# EAGLE library part STM32F4-144_PIN (library p.peter-ics)
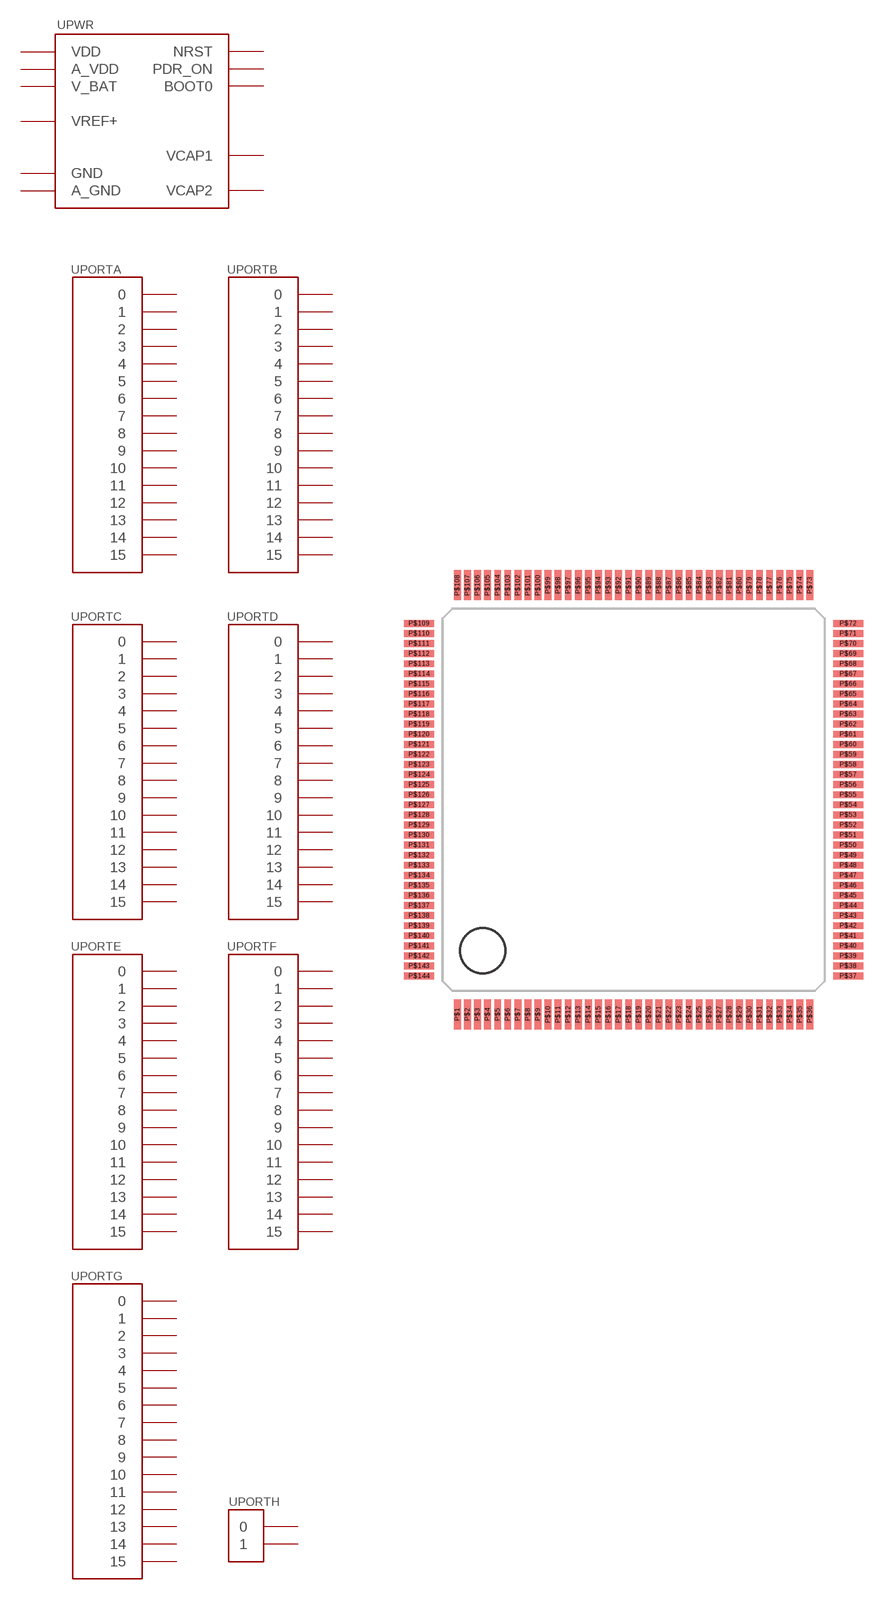
[diagram p5: symbol with the pads of LQFP144; footprint LQFP144]

Designator prefix -; gates PWR=STM32F4-PWR PORTA=STM32-PORT PORTB=STM32-PORT PORTC=STM32-PORT PORTD=STM32-PORT PORTE=STM32-PORT PORTF=STM32-PORT PORTG=STM32-PORT PORTH=STM32-PORT_2

## STM32F4-144_PINLQFP  [LQFP144]
P$1  PORTE:2
P$2  PORTE:3
P$3  PORTE:4
P$4  PORTE:5
P$5  PORTE:6
P$6  PWR:V_BAT  pwr
P$7  PORTC:13
P$8  PORTC:14
P$9  PORTC:15
P$10  PORTF:0
P$11  PORTF:1
P$12  PORTF:2
P$13  PORTF:3
P$14  PORTF:4
P$15  PORTF:5
P$16  PWR:GND  pwr
P$17  PWR:VDD  pwr
P$18  PORTF:6
P$19  PORTF:7
P$20  PORTF:8
P$21  PORTF:9
P$22  PORTF:10
P$23  PORTH:0
P$24  PORTH:1
P$25  PWR:NRST
P$26  PORTC:0
P$27  PORTC:1
P$28  PORTC:2
P$29  PORTC:3
P$30  PWR:VDD  pwr
P$31  PWR:A_GND  pwr
P$32  PWR:VREF+
P$33  PWR:A_VDD  pwr
P$34  PORTA:0
P$35  PORTA:1
P$36  PORTA:2
P$37  PORTA:3
P$38  PWR:GND  pwr
P$39  PWR:VDD  pwr
P$40  PORTA:4
P$41  PORTA:5
P$42  PORTA:6
P$43  PORTA:7
P$44  PORTC:4
P$45  PORTC:5
P$46  PORTB:0
P$47  PORTB:1
P$48  PORTB:2
P$49  PORTF:11
P$50  PORTF:12
P$51  PWR:GND  pwr
P$52  PWR:VDD  pwr
P$53  PORTF:13
P$54  PORTF:14
P$55  PORTF:15
P$56  PORTG:0
P$57  PORTG:1
P$58  PORTE:7
P$59  PORTE:8
P$60  PORTE:9
P$61  PWR:GND  pwr
P$62  PWR:VDD  pwr
P$63  PORTE:10
P$64  PORTE:11
P$65  PORTE:12
P$66  PORTE:13
P$67  PORTE:14
P$68  PORTE:15
P$69  PORTB:10
P$70  PORTB:11
P$71  PWR:VCAP1
P$72  PWR:VDD  pwr
P$73  PORTB:12
P$74  PORTB:13
P$75  PORTB:14
P$76  PORTB:15
P$77  PORTD:8
P$78  PORTD:9
P$79  PORTD:10
P$80  PORTD:11
P$81  PORTD:12
P$82  PORTD:13
P$83  PWR:GND  pwr
P$84  PWR:VDD  pwr
P$85  PORTD:14
P$86  PORTD:15
P$87  PORTG:2
P$88  PORTG:3
P$89  PORTG:4
P$90  PORTG:5
P$91  PORTG:6
P$92  PORTG:7
P$93  PORTG:8
P$94  PWR:GND  pwr
P$95  PWR:VDD  pwr
P$96  PORTC:6
P$97  PORTC:7
P$98  PORTC:8
P$99  PORTC:9
P$100  PORTA:8
P$101  PORTA:9
P$102  PORTA:10
P$103  PORTA:11
P$104  PORTA:12
P$105  PORTA:13
P$106  PWR:VCAP2
P$107  PWR:GND  pwr
P$108  PWR:VDD  pwr
P$109  PORTA:14
P$110  PORTA:15
P$111  PORTC:10
P$112  PORTC:11
P$113  PORTC:12
P$114  PORTD:0
P$115  PORTD:1
P$116  PORTD:2
P$117  PORTD:3
P$118  PORTD:4
P$119  PORTD:5
P$120  PWR:GND  pwr
P$121  PWR:VDD  pwr
P$122  PORTD:6
P$123  PORTD:7
P$124  PORTG:9
P$125  PORTG:10
P$126  PORTG:11
P$127  PORTG:12
P$128  PORTG:13
P$129  PORTG:14
P$130  PWR:GND  pwr
P$131  PWR:VDD  pwr
P$132  PORTG:15
P$133  PORTB:3
P$134  PORTB:4
P$135  PORTB:5
P$136  PORTB:6
P$137  PORTB:7
P$138  PWR:BOOT0
P$139  PORTB:8
P$140  PORTB:9
P$141  PORTE:0
P$142  PORTE:1
P$143  PWR:PDR_ON
P$144  PWR:VDD  pwr

## Footprint LQFP144 (pad centres in mm)
smd 0.34 x 1.5: P$1 -8.75,-10.65; P$2 -8.25,-10.65; P$3 -7.75,-10.65; P$4 -7.25,-10.65; P$5 -6.75,-10.65; P$6 -6.25,-10.65; P$7 -5.75,-10.65; P$8 -5.25,-10.65; P$9 -4.75,-10.65; P$10 -4.25,-10.65; P$11 -3.75,-10.65; P$12 -3.25,-10.65; P$13 -2.75,-10.65; P$14 -2.25,-10.65; P$15 -1.75,-10.65; P$16 -1.25,-10.65; P$17 -0.75,-10.65; P$18 -0.25,-10.65; P$19 0.25,-10.65; P$20 0.75,-10.65; P$21 1.25,-10.65; P$22 1.75,-10.65; P$23 2.25,-10.65; P$24 2.75,-10.65; P$25 3.25,-10.65; P$26 3.75,-10.65; P$27 4.25,-10.65; P$28 4.75,-10.65; P$29 5.25,-10.65; P$30 5.75,-10.65; P$31 6.25,-10.65; P$32 6.75,-10.65; P$33 7.25,-10.65; P$34 7.75,-10.65; P$35 8.25,-10.65; P$36 8.75,-10.65; P$73 8.75,10.65; P$74 8.25,10.65; P$75 7.75,10.65; P$76 7.25,10.65; P$77 6.75,10.65; P$78 6.25,10.65; P$79 5.75,10.65; P$80 5.25,10.65; P$81 4.75,10.65; P$82 4.25,10.65; P$83 3.75,10.65; P$84 3.25,10.65; P$85 2.75,10.65; P$86 2.25,10.65; P$87 1.75,10.65; P$88 1.25,10.65; P$89 0.75,10.65; P$90 0.25,10.65; P$91 -0.25,10.65; P$92 -0.75,10.65; P$93 -1.25,10.65; P$94 -1.75,10.65; P$95 -2.25,10.65; P$96 -2.75,10.65; P$97 -3.25,10.65; P$98 -3.75,10.65; P$99 -4.25,10.65; P$100 -4.75,10.65; P$101 -5.25,10.65; P$102 -5.75,10.65; P$103 -6.25,10.65; P$104 -6.75,10.65; P$105 -7.25,10.65; P$106 -7.75,10.65; P$107 -8.25,10.65; P$108 -8.75,10.65
smd 1.5 x 0.34: P$37 10.65,-8.75; P$38 10.65,-8.25; P$39 10.65,-7.75; P$40 10.65,-7.25; P$41 10.65,-6.75; P$42 10.65,-6.25; P$43 10.65,-5.75; P$44 10.65,-5.25; P$45 10.65,-4.75; P$46 10.65,-4.25; P$47 10.65,-3.75; P$48 10.65,-3.25; P$49 10.65,-2.75; P$50 10.65,-2.25; P$51 10.65,-1.75; P$52 10.65,-1.25; P$53 10.65,-0.75; P$54 10.65,-0.25; P$55 10.65,0.25; P$56 10.65,0.75; P$57 10.65,1.25; P$58 10.65,1.75; P$59 10.65,2.25; P$60 10.65,2.75; P$61 10.65,3.25; P$62 10.65,3.75; P$63 10.65,4.25; P$64 10.65,4.75; P$65 10.65,5.25; P$66 10.65,5.75; P$67 10.65,6.25; P$68 10.65,6.75; P$69 10.65,7.25; P$70 10.65,7.75; P$71 10.65,8.25; P$72 10.65,8.75; P$109 -10.65,8.75; P$110 -10.65,8.25; P$111 -10.65,7.75; P$112 -10.65,7.25; P$113 -10.65,6.75; P$114 -10.65,6.25; P$115 -10.65,5.75; P$116 -10.65,5.25; P$117 -10.65,4.75; P$118 -10.65,4.25; P$119 -10.65,3.75; P$120 -10.65,3.25; P$121 -10.65,2.75; P$122 -10.65,2.25; P$123 -10.65,1.75; P$124 -10.65,1.25; P$125 -10.65,0.75; P$126 -10.65,0.25; P$127 -10.65,-0.25; P$128 -10.65,-0.75; P$129 -10.65,-1.25; P$130 -10.65,-1.75; P$131 -10.65,-2.25; P$132 -10.65,-2.75; P$133 -10.65,-3.25; P$134 -10.65,-3.75; P$135 -10.65,-4.25; P$136 -10.65,-4.75; P$137 -10.65,-5.25; P$138 -10.65,-5.75; P$139 -10.65,-6.25; P$140 -10.65,-6.75; P$141 -10.65,-7.25; P$142 -10.65,-7.75; P$143 -10.65,-8.25; P$144 -10.65,-8.75